# Altium footprint library Connectors.PcbLib: 147 footprints (part 6 of 10)
Each footprint in its own frame and in the unit in brackets; x right, y up, seen from the top. Pads: shape width x height; smd on the part's side, far side on the other; paste and mask are expansions set on the pad; w line width, h text height; cw(c..) or ccw(c..) is an arc to the next point about the centre after c.
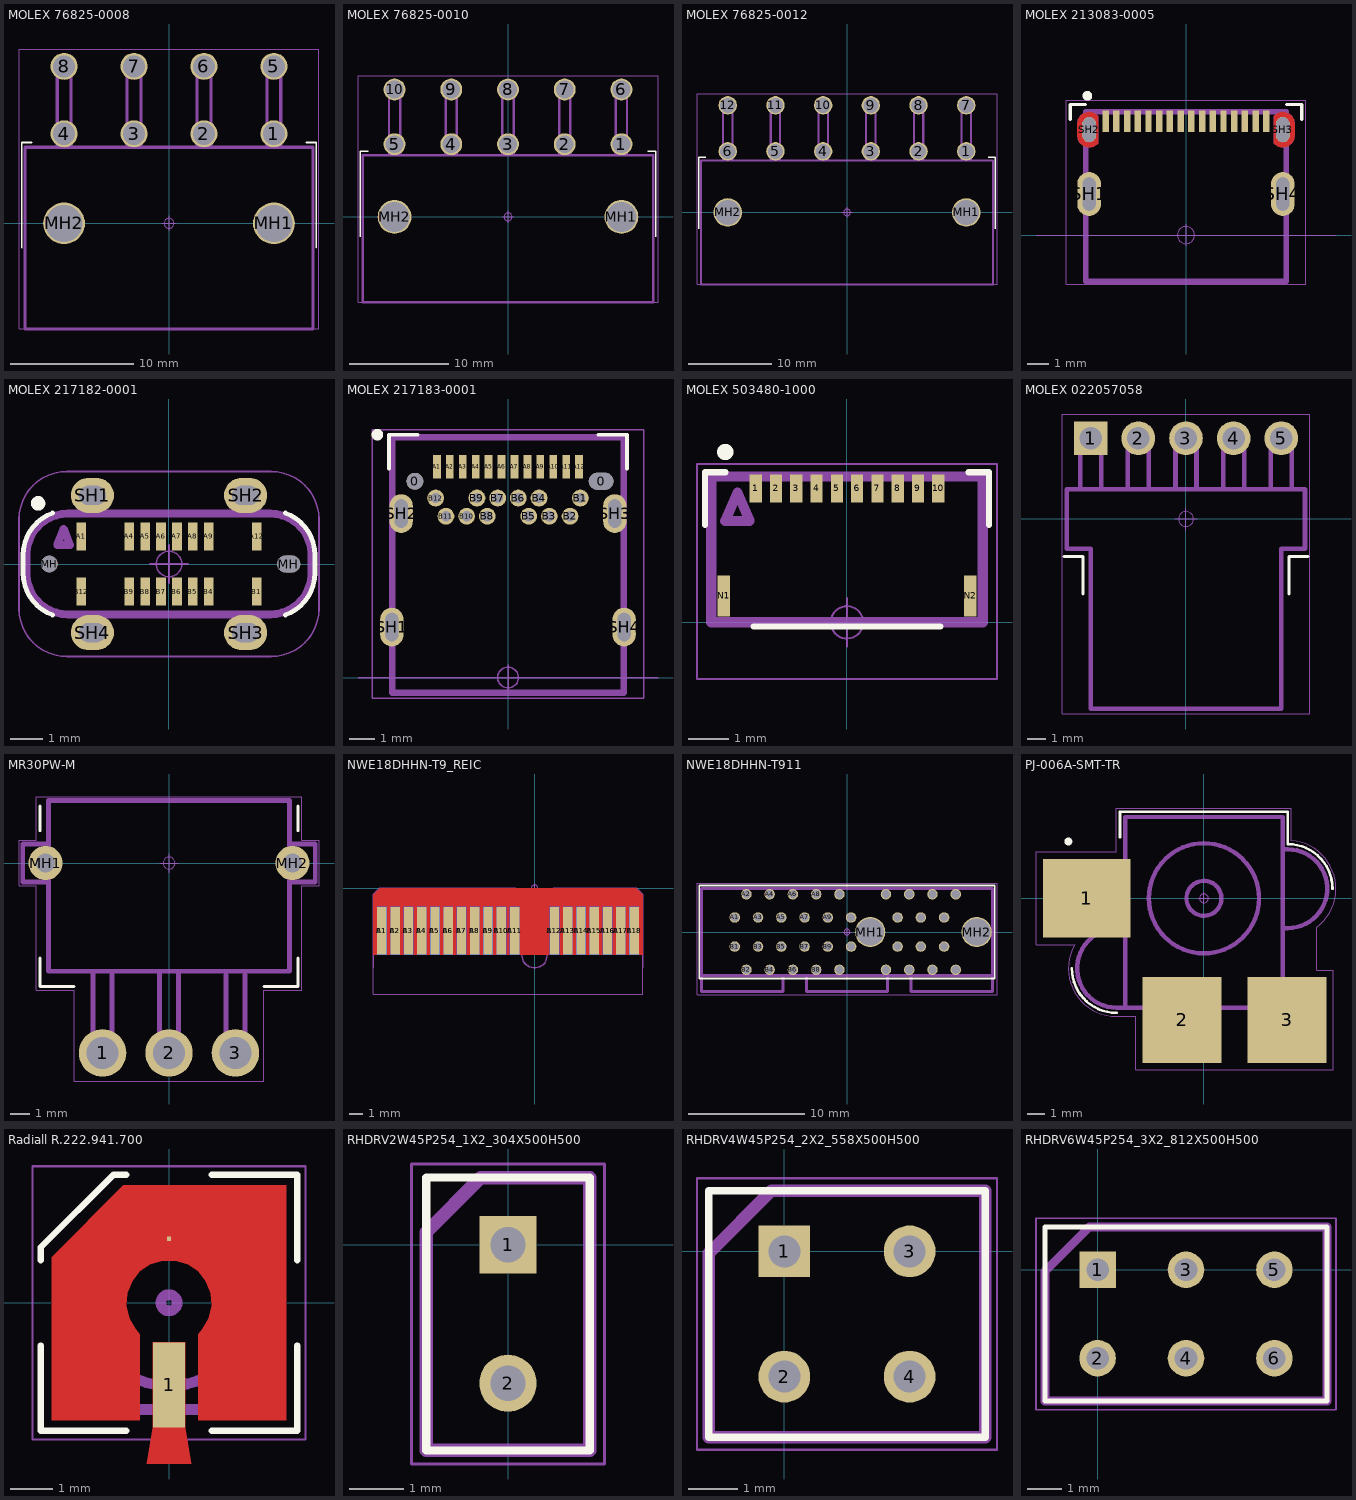
[diagram p5: the footprints below, top view; thin cyan lines are the x and y axes]

## MOLEX 76825-0008 [mm] "Mega-Fit Right-Angle Header, 8 Circuits, Tin (Sn) Plating, UL 94 V-0, Glow-Wire Capable, Tray"
height 14.53
pads (10):
  round 2.2 hole 1.8: 1(8.55,7.3) 2(2.85,7.3) 3(-2.85,7.3) 4(-8.55,7.3) 5(8.55,12.8) 6(2.85,12.8) 7(-2.85,12.8) 8(-8.55,12.8)
  round 3.4 hole 3 unplated: MH1(8.55,0) MH2(-8.55,0)
Top Overlay:
  lines w0.15: -12,-1.976 -11.999,-1.975 -11.999,6.6 -11.2,6.6 ; 11.2,6.6 11.999,6.6 11.999,-1.975
Top Assembly:
  lines w0.25: -9.11,6.2 -9.11,13.36 ; -9.11,6.74 -7.99,6.74 ; -9.11,7.86 -7.99,7.86 ; -9.11,12.24 -7.99,12.24 ; -7.99,6.2 -7.99,13.36 ; -3.41,6.2 -3.41,13.36 ; -3.41,6.74 -2.29,6.74 ; -3.41,7.86 -2.29,7.86 ; -3.41,12.24 -2.29,12.24 ; -2.29,6.2 -2.29,13.36 ; 2.29,6.2 2.29,13.36 ; 2.29,6.74 3.41,6.74 ; 2.29,7.86 3.41,7.86 ; 2.29,12.24 3.41,12.24 ; 3.41,6.2 3.41,13.36 ; 7.99,6.2 7.99,13.36 ; 7.99,6.74 9.11,6.74 ; 7.99,7.86 9.11,7.86 ; 7.99,12.24 9.11,12.24 ; 9.11,6.2 9.11,13.36 ; -9.11,13.36 -7.99,13.36 ; -9.11,13.36 -9.11,13.36 ; -7.99,13.36 -7.99,13.36 ; -3.41,13.36 -2.29,13.36 ; -3.41,13.36 -3.41,13.36 ; -2.29,13.36 -2.29,13.36 ; 2.29,13.36 3.41,13.36 ; 2.29,13.36 2.29,13.36 ; 3.41,13.36 3.41,13.36 ; 7.99,13.36 9.11,13.36 ; 7.99,13.36 7.99,13.36 ; 9.11,13.36 9.11,13.36 ; -11.725,-8.6 11.725,-8.6 11.725,6.2 -11.725,6.2 -11.725,-8.6
  text ".Designator" at -3.378,-0.339 h1.5
Top Courtyard:
  circle w0.05: c0,0 r0.4
  lines w0.05: -0.6,0 0.6,0 ; 0,-0.6 0,0.6 ; -12.225,-8.6 12.225,-8.6 12.225,14.2 -12.225,14.2 -12.225,-8.6
3D body "768250008_colors.STEP": height 14.55, standoff -3.59, extent -11.725,-8.6 11.735,13.362

## MOLEX 76825-0010 [mm] "Mega-Fit Right-Angle Header, 10 Circuits, Tin (Sn) Plating, UL 94 V-0, Glow-Wire Capable, Tray"
height 14.53
pads (12):
  round 2.2 hole 1.8: 1(11.4,7.3) 2(5.7,7.3) 3(0,7.3) 4(-5.7,7.3) 5(-11.4,7.3) 6(11.4,12.8) 7(5.7,12.8) 8(0,12.8) 9(-5.7,12.8) 10(-11.4,12.8)
  round 3.4 hole 3 unplated: MH1(11.4,0) MH2(-11.4,0)
Top Overlay:
  lines w0.15: -14.85,-1.976 -14.849,-1.975 -14.849,6.6 -14.05,6.6 ; 14.05,6.6 14.849,6.6 14.849,-1.975
Top Assembly:
  lines w0.25: -11.96,6.2 -11.96,13.36 ; -11.96,6.74 -10.84,6.74 ; -11.96,7.86 -10.84,7.86 ; -11.96,12.24 -10.84,12.24 ; -10.84,6.2 -10.84,13.36 ; -6.26,6.2 -6.26,13.36 ; -6.26,6.74 -5.14,6.74 ; -6.26,7.86 -5.14,7.86 ; -6.26,12.24 -5.14,12.24 ; -5.14,6.2 -5.14,13.36 ; -0.56,6.2 -0.56,13.36 ; -0.56,6.74 0.56,6.74 ; -0.56,7.86 0.56,7.86 ; -0.56,12.24 0.56,12.24 ; 0.56,6.2 0.56,13.36 ; 5.14,6.2 5.14,13.36 ; 5.14,6.74 6.26,6.74 ; 5.14,7.86 6.26,7.86 ; 5.14,12.24 6.26,12.24 ; 6.26,6.2 6.26,13.36 ; 10.84,6.2 10.84,13.36 ; 10.84,6.74 11.96,6.74 ; 10.84,7.86 11.96,7.86 ; 10.84,12.24 11.96,12.24 ; 11.96,6.2 11.96,13.36 ; -11.96,13.36 -11.96,13.36 ; -11.96,13.36 -10.84,13.36 ; -10.84,13.36 -10.84,13.36 ; -6.26,13.36 -6.26,13.36 ; -6.26,13.36 -5.14,13.36 ; -5.14,13.36 -5.14,13.36 ; -0.56,13.36 -0.56,13.36 ; -0.56,13.36 0.56,13.36 ; 0.56,13.36 0.56,13.36 ; 5.14,13.36 5.14,13.36 ; 5.14,13.36 6.26,13.36 ; 6.26,13.36 6.26,13.36 ; 10.84,13.36 10.84,13.36 ; 10.84,13.36 11.96,13.36 ; 11.96,13.36 11.96,13.36 ; -14.575,-8.6 -14.575,6.2 14.575,6.2 14.575,-8.6 -14.575,-8.6
  text ".Designator" at -3.378,-0.339 h1.5
Top Courtyard:
  circle w0.05: c0,0 r0.4
  lines w0.05: -0.6,0 0.6,0 ; 0,-0.6 0,0.6 ; -15.075,-8.6 -15.075,14.2 15.075,14.2 15.075,-8.6 -15.075,-8.6
3D body "768250010.STEP": height 14.55, standoff -3.59, extent -14.575,-8.6 14.585,13.362

## MOLEX 76825-0012 [mm] "Mega-Fit Right-Angle Header, 12 Circuits, Tin (Sn) Plating, UL 94 V-0, Glow-Wire Capable, Tray"
height 14.53
pads (14):
  round 2.2 hole 1.8: 1(14.25,7.3) 2(8.55,7.3) 3(2.85,7.3) 4(-2.85,7.3) 5(-8.55,7.3) 6(-14.25,7.3) 7(14.25,12.8) 8(8.55,12.8) 9(2.85,12.8) 10(-2.85,12.8) 11(-8.55,12.8) 12(-14.25,12.8)
  round 3.4 hole 3 unplated: MH1(14.25,0) MH2(-14.25,0)
Top Overlay:
  lines w0.15: -17.7,-1.976 -17.699,-1.975 -17.699,6.6 -16.9,6.6 ; 16.9,6.6 17.699,6.6 17.699,-1.975
Top Assembly:
  lines w0.25: -14.81,6.2 -14.81,13.36 ; -14.81,6.74 -13.69,6.74 ; -14.81,7.86 -13.69,7.86 ; -14.81,12.24 -13.69,12.24 ; -13.69,6.2 -13.69,13.36 ; -9.11,6.2 -9.11,13.36 ; -9.11,6.74 -7.99,6.74 ; -9.11,7.86 -7.99,7.86 ; -9.11,12.24 -7.99,12.24 ; -7.99,6.2 -7.99,13.36 ; -3.41,6.2 -3.41,13.36 ; -3.41,6.74 -2.29,6.74 ; -3.41,7.86 -2.29,7.86 ; -3.41,12.24 -2.29,12.24 ; -2.29,6.2 -2.29,13.36 ; 2.29,6.2 2.29,13.36 ; 2.29,6.74 3.41,6.74 ; 2.29,7.86 3.41,7.86 ; 2.29,12.24 3.41,12.24 ; 3.41,6.2 3.41,13.36 ; 7.99,6.2 7.99,13.36 ; 7.99,6.74 9.11,6.74 ; 7.99,7.86 9.11,7.86 ; 7.99,12.24 9.11,12.24 ; 9.11,6.2 9.11,13.36 ; 13.69,6.2 13.69,13.36 ; 13.69,6.74 14.81,6.74 ; 13.69,7.86 14.81,7.86 ; 13.69,12.24 14.81,12.24 ; 14.81,6.2 14.81,13.36 ; -14.81,13.36 -14.81,13.36 ; -14.81,13.36 -13.69,13.36 ; -13.69,13.36 -13.69,13.36 ; -9.11,13.36 -9.11,13.36 ; -9.11,13.36 -7.99,13.36 ; -7.99,13.36 -7.99,13.36 ; -3.41,13.36 -3.41,13.36 ; -3.41,13.36 -2.29,13.36 ; -2.29,13.36 -2.29,13.36 ; 2.29,13.36 2.29,13.36 ; 2.29,13.36 3.41,13.36 ; 3.41,13.36 3.41,13.36 ; 7.99,13.36 7.99,13.36 ; 7.99,13.36 9.11,13.36 ; 9.11,13.36 9.11,13.36 ; 13.69,13.36 13.69,13.36 ; 13.69,13.36 14.81,13.36 ; 14.81,13.36 14.81,13.36 ; -17.425,-8.6 -17.425,6.2 17.425,6.2 17.425,-8.6 -17.425,-8.6
  text ".Designator" at -3.378,-0.339 h1.5
Top Courtyard:
  circle w0.05: c0,0 r0.4
  lines w0.05: -0.6,0 0.6,0 ; 0,-0.6 0,0.6 ; -17.925,-8.6 -17.925,14.2 17.925,14.2 17.925,-8.6 -17.925,-8.6
3D body "768250012.STEP": height 14.55, standoff -3.59, extent -17.425,-8.6 17.435,13.362

## MOLEX 213083-0005 [mm] "Universal Serial Bus (USB) Shielded I/O Receptacle, Type C, Right-Angle, Top Mount, Single Row, Surface Mount, Gold (Au) Plating, Waterproof"
height 4.7
pads (20):
  rect 0.3x1 smd: A1(-3.75,5.32) A4(-2.75,5.32) A5(-1.75,5.32) A6(-0.75,5.32) A7(0.75,5.32) A8(1.75,5.32) A9(2.75,5.32) A12(3.75,5.32) B1(3.25,5.32) B4(2.25,5.32) B5(1.25,5.32) B6(0.25,5.32) B7(-0.25,5.32) B8(-1.25,5.32) B9(-2.25,5.32) B12(-3.25,5.32)
  oval 1.1x2.05 hole 0.6 slot 1.55 at 90 deg: SH1(-4.52,1.92) SH4(4.52,1.92)
  oval 0.625x1.175 hole 0.6 slot 1.15 at 90 deg: SH2(-4.52,4.92) SH3(4.52,4.92)
Top Layer:
  region: -5.07,4.645 -5.07,4.609 -5.061,4.537 -5.042,4.468 -5.015,4.401 -4.979,4.338 -4.935,4.281 -4.884,4.23 -4.826,4.186 -4.764,4.15 -4.697,4.123 -4.628,4.104 -4.556,4.095 -4.52,4.095 -4.49,4.095 -4.431,4.101 -4.372,4.114 -4.316,4.133 -4.261,4.158 -4.21,4.189 -4.163,4.226 -4.119,4.267 -4.1,4.29 -4.1,4.925 -4.1,5.55 -4.119,5.572 -4.163,5.614 -4.21,5.65 -4.261,5.681 -4.316,5.706 -4.372,5.725 -4.431,5.738 -4.49,5.745 -4.52,5.745 -4.556,5.745 -4.628,5.735 -4.697,5.717 -4.764,5.689 -4.826,5.653 -4.884,5.609 -4.935,5.558 -4.979,5.501 -5.015,5.438 -5.042,5.372 -5.061,5.302 -5.07,5.231 -5.07,5.195
  region: 5.07,5.195 5.07,5.231 5.06,5.302 5.042,5.372 5.014,5.438 4.978,5.501 4.934,5.558 4.883,5.609 4.826,5.653 4.764,5.689 4.697,5.717 4.627,5.735 4.556,5.745 4.52,5.745 4.49,5.745 4.43,5.738 4.372,5.725 4.315,5.706 4.261,5.681 4.21,5.65 4.162,5.614 4.119,5.572 4.1,5.55 4.1,4.914 4.1,4.29 4.119,4.267 4.162,4.226 4.21,4.189 4.261,4.158 4.315,4.133 4.372,4.114 4.43,4.101 4.49,4.095 4.52,4.095 4.556,4.095 4.627,4.104 4.697,4.123 4.764,4.15 4.826,4.186 4.883,4.23 4.934,4.281 4.978,4.338 5.014,4.401 5.042,4.468 5.06,4.537 5.07,4.609 5.07,4.645
Bottom Layer:
  region: -5.07,4.645 -5.07,4.609 -5.061,4.537 -5.042,4.468 -5.015,4.401 -4.979,4.338 -4.935,4.281 -4.884,4.23 -4.826,4.186 -4.764,4.15 -4.697,4.123 -4.628,4.104 -4.556,4.095 -4.52,4.095 -4.49,4.095 -4.431,4.101 -4.372,4.114 -4.316,4.133 -4.261,4.158 -4.21,4.189 -4.163,4.226 -4.119,4.267 -4.1,4.29 -4.1,4.925 -4.1,5.55 -4.119,5.572 -4.163,5.614 -4.21,5.65 -4.261,5.681 -4.316,5.706 -4.372,5.725 -4.431,5.738 -4.49,5.745 -4.52,5.745 -4.556,5.745 -4.628,5.735 -4.697,5.717 -4.764,5.689 -4.826,5.653 -4.884,5.609 -4.935,5.558 -4.979,5.501 -5.015,5.438 -5.042,5.372 -5.061,5.302 -5.07,5.231 -5.07,5.195
  region: 5.07,5.195 5.07,5.231 5.06,5.302 5.042,5.372 5.014,5.438 4.978,5.501 4.934,5.558 4.883,5.609 4.826,5.653 4.764,5.689 4.697,5.717 4.627,5.735 4.556,5.745 4.52,5.745 4.49,5.745 4.43,5.738 4.372,5.725 4.315,5.706 4.261,5.681 4.21,5.65 4.162,5.614 4.119,5.572 4.1,5.55 4.1,4.914 4.1,4.29 4.119,4.267 4.162,4.226 4.21,4.189 4.261,4.158 4.315,4.133 4.372,4.114 4.43,4.101 4.49,4.095 4.52,4.095 4.556,4.095 4.627,4.104 4.697,4.123 4.764,4.15 4.826,4.186 4.883,4.23 4.934,4.281 4.978,4.338 5.014,4.401 5.042,4.468 5.06,4.537 5.07,4.609 5.07,4.645
Top Overlay:
  circle w0.25: c-4.6,6.5 r0.1
  lines w0.15: -5.4,5.4 -5.4,6.1 -4.7,6.1 ; 4.7,6.1 5.4,6.1 5.4,5.4
Top Assembly:
  lines w0.25: -4.67,-2.15 -4.67,5.75 4.67,5.75 4.67,-2.15 -4.67,-2.15
  text ".Designator" at -3.628,0.441 h1.5
Top Courtyard:
  circle w0.05: c0,0 r0.4
  lines w0.05: -7,0 7,0 ; 0,-0.5 0,0.5 ; -5.598,-2.298 5.598,-2.298 5.598,6.298 -5.598,6.298 -5.598,-2.298
Multi-Layer:
  pour cut-out: -3.7,0 -3.7,4.5 3.7,4.5 3.7,0
3D body "2130830005-colors.STEP": height 3.92, standoff -1.04, extent -5.17,-2.18 5.17,5.72

## MOLEX 217182-0001 [mm] "Universal Serial Bus (USB) Shielded I/O Receptacle, Type C, Vertical, Surface Mount, Height 6.40mm, 16 Circuits, Gold (Au) Plating"
height 6.4
pads (22):
  rect 0.3x0.87 smd: A1(-2.75,0.865) A4(-1.25,0.865) A5(-0.75,0.865) A6(-0.25,0.865) A7(0.25,0.865) A8(0.75,0.865) A9(1.25,0.865) A12(2.75,0.865) B1(2.75,-0.865) B4(1.25,-0.865) B5(0.75,-0.865) B6(0.25,-0.865) B7(-0.25,-0.865) B8(-0.75,-0.865) B9(-1.25,-0.865) B12(-2.75,-0.865)
  round 0.52 hole 0.52 unplated paste-2539.97 mask+0: MH(-3.75,0)
  oval 0.72x0.52 hole 0.52 slot 0.72 at 0 deg unplated paste-2539.97 mask+0: MH(3.75,0)
  oval 1.35x1.1 hole 0.6 slot 0.85 at 0 deg: SH1(-2.4,2.15) SH2(2.4,2.15) SH3(2.4,-2.15) SH4(-2.4,-2.15)
Top Overlay:
  circle w0.25: c-4.1,1.9 r0.1
  lines w0.15: -3.649,-1.596 cw(c-3.17,-0.28) -4.57,-0.28 -4.57,0.28 cw(c-3.17,0.28) -3.649,1.596 ; 3.649,-1.596 ccw(c3.17,-0.28) 4.57,-0.28 4.57,0.28 ccw(c3.17,0.28) 3.649,1.596
Top Assembly:
  lines w0.25: -4.468,-0.278 ccw(c-3.168,-0.278) -3.168,-1.578 3.168,-1.578 ccw(c3.168,-0.278) 4.468,-0.278 4.468,0.278 ccw(c3.168,0.278) 3.168,1.578 -3.168,1.578 ccw(c-3.168,0.278) -4.468,0.278 -4.468,-0.278 ; -3.5,0.6 -3.1,0.6 -3.3,1.1 -3.5,0.6
  text ".Designator" at -5.637,-0.566 h2.5
Top Courtyard:
  circle w0.05: c0,0 r0.4
  lines w0.05: -0.6,0 0.6,0 ; 0,-0.6 0,0.6 ; -4.698,-1.398 ccw(c-3.198,-1.398) -3.198,-2.898 3.198,-2.898 ccw(c3.198,-1.398) 4.698,-1.398 4.698,1.398 ccw(c3.198,1.398) 3.198,2.898 -3.198,2.898 ccw(c-3.198,1.398) -4.698,1.398 -4.698,-1.398
3D body "2171820001_Colors.STEP": height 6.41, standoff -0.94, extent -4.47,-2.3 4.47,2.3

## MOLEX 217183-0001 [mm] "Universal Serial Bus (USB) Shielded I/O Receptacle, Type C, Right-Angle, Hybrid, Top Mount, 24 Circuits, Gold (Au) Plating"
height 3.2
pads (30):
  round 0.65 hole 0.65 unplated paste-2539.97 mask+0: 0(-3.6,7.59)
  oval 0.95x0.65 hole 0.65 slot 0.95 at 0 deg unplated paste-2539.97 mask+0: 0(3.6,7.59)
  rect 0.3x0.9 smd: A1(-2.75,8.15) A2(-2.25,8.15) A3(-1.75,8.15) A4(-1.25,8.15) A5(-0.75,8.15) A6(-0.25,8.15) A7(0.25,8.15) A8(0.75,8.15) A9(1.25,8.15) A10(1.75,8.15) A11(2.25,8.15) A12(2.75,8.15)
  round 0.65 hole 0.4: B1(2.8,6.94) B2(2.4,6.24) B3(1.6,6.24) B4(1.2,6.94) B5(0.8,6.24) B6(0.4,6.94) B7(-0.4,6.94) B8(-0.8,6.24) B9(-1.2,6.94) B10(-1.6,6.24) B11(-2.4,6.24) B12(-2.8,6.94)
  oval 0.9x1.5 hole 0.5 slot 1.1 at 90 deg: SH1(-4.49,1.95) SH2(-4.13,6.34) SH3(4.13,6.34) SH4(4.49,1.95)
Top Overlay:
  circle w0.25: c-5.05,9.39 r0.1
  lines w0.15: -4.6,8.09 -4.6,9.39 -3.5,9.39 ; 3.5,9.39 4.6,9.39 4.6,8.09
Top Assembly:
  lines w0.25: -4.475,-0.58 4.475,-0.58 4.475,9.29 -4.475,9.29 -4.475,-0.58
  text ".Designator" at -3.378,4.016 h1.5
Top Courtyard:
  circle w0.05: c0,0 r0.4
  lines w0.05: -5.8,0 5.8,0 ; 0,-0.5 0,0.5 ; -5.248,-0.808 5.248,-0.808 5.248,9.588 -5.248,9.588 -5.248,-0.808
3D body "2171830001-colors.STEP": height 3.33, standoff -1.13, extent -4.925,-0.58 4.925,9.29

## MOLEX 503480-1000 [mm] "Easy-On FFC/FPC Connector, 0.50mm Pitch, FBH1 Series, Right-Angle, Dual Contact, 1.00mm Height, 10 Circuits, Gold over Nickel Plating"
height 1.9
pads (12):
  rect 0.3x0.7 smd: 1(-2.25,3.3) 2(-1.75,3.3) 3(-1.25,3.3) 4(-0.75,3.3) 5(-0.25,3.3) 6(0.25,3.3) 7(0.75,3.3) 8(1.25,3.3) 9(1.75,3.3) 10(2.25,3.3)
  rect 0.3x1 smd: N1(-3.04,0.65) N2(3.04,0.65)
Top Overlay:
  circle w0.25: c-3,4.2 r0.075
  lines w0.15: -3.5,2.4 -3.5,3.7 -3,3.7 ; -2.3,-0.1 2.3,-0.1 ; 3,3.7 3.5,3.7 3.5,2.4
Top Assembly:
  lines w0.25: -3.348,0.002 3.348,0.002 3.348,3.598 -3.348,3.598 -3.348,0.002 ; -3,2.5 -2.4,2.5 -2.7,3.2 -3,2.5
  text ".Designator" at -3.378,1.061 h1.5
Top Courtyard:
  circle w0.05: c0,0 r0.4
  lines w0.05: -0.6,0 0.6,0 ; 0,-0.6 0,0.6 ; -3.698,-1.398 3.698,-1.398 3.698,3.898 -3.698,3.898 -3.698,-1.398
3D body "Molex_503480-1000_Colors.STEP": height 1.85, standoff -0.02, extent -3.35,0 3.35,3.6

## MOLEX 022057058 [mm] "KK 254 Wire-to-Board Header, Right-Angle, with Friction Lock, 5 Circuits"
height 5.8
pads (5):
  rect 1.8x1.8 hole 1.2 paste-2539.97 mask+0.2: 1(-5.08,4.307)
  round 1.8 hole 1.2 paste-2539.97 mask+0.2: 2(-2.54,4.307) 3(0,4.307) 4(2.54,4.307) 5(5.08,4.307)
Top Overlay:
  lines w0.15: -6.5,-2 -5.5,-2 -5.5,-4 ; 5.5,-4 5.5,-2 6.5,-2
Top Assembly:
  lines w0.25: -5.64,1.6 -5.64,4.867 ; -5.64,3.747 -4.52,3.747 ; -4.52,1.6 -4.52,4.867 ; -3.1,1.6 -3.1,4.867 ; -3.1,3.747 -1.98,3.747 ; -1.98,1.6 -1.98,4.867 ; -0.56,1.6 -0.56,4.867 ; -0.56,3.747 0.56,3.747 ; 0.56,1.6 0.56,4.867 ; 1.98,1.6 1.98,4.867 ; 1.98,3.747 3.1,3.747 ; 3.1,1.6 3.1,4.867 ; 4.52,1.6 4.52,4.867 ; 4.52,3.747 5.64,3.747 ; 5.64,1.6 5.64,4.867 ; -5.64,4.867 -5.64,4.867 ; -5.64,4.867 -4.52,4.867 ; -4.52,4.867 -4.52,4.867 ; -3.1,4.867 -3.1,4.867 ; -3.1,4.867 -1.98,4.867 ; -1.98,4.867 -1.98,4.867 ; -0.56,4.867 -0.56,4.867 ; -0.56,4.867 0.56,4.867 ; 0.56,4.867 0.56,4.867 ; 1.98,4.867 1.98,4.867 ; 1.98,4.867 3.1,4.867 ; 3.1,4.867 3.1,4.867 ; 4.52,4.867 4.52,4.867 ; 4.52,4.867 5.64,4.867 ; 5.08,-10.113 -5.08,-10.113 -5.08,-1.588 -6.35,-1.588 -6.35,1.587 6.35,1.587 6.35,-1.588 5.08,-1.588 ; 5.08,-10.113 5.08,-1.588 ; 5.08,-10.113 5.08,-1.588 ; 5.64,4.867 5.64,4.867
  text ".Designator" at -3.378,-0.339 h1.5
Top Courtyard:
  circle w0.05: c0,0 r0.4
  lines w0.05: -0.6,0 0.6,0 ; 0,-0.6 0,0.6 ; -6.598,-10.398 6.598,-10.398 6.598,5.598 -6.598,5.598 -6.598,-10.398
3D body "MOLEX 022057058.STEP": height 5.87, standoff -3.77, extent -6.35,-10.112 6.35,4.625

## MR30PW-M [mm] "AMASS MR30PW Right Angle 3-pos Male"
height 5.3
pads (5):
  round 2.5 hole 1.7: 1(-3.5,-10) 2(0,-10) 3(3.5,-10)
  round 1.8 hole 1: MH1(-6.5,0) MH2(6.5,0)
Top Overlay:
  lines w0.15: -6.8,-5 -6.8,-6.5 -5,-6.5 ; -6.8,1.7 -6.8,3 ; 5,-6.5 6.8,-6.5 6.8,-5 ; 6.8,1.7 6.8,3
Top Assembly:
  lines w0.25: -6.4,-1 -7.7,-1 -7.7,1 -6.4,1 ; -4,-5.8 -4,-10.5 -3,-10.5 -3,-5.8 ; -0.5,-5.7 -0.5,-10.4 0.5,-10.4 0.5,-5.7 ; 3,-5.9 3,-10.6 4,-10.6 4,-5.9 ; 6.4,-1 7.7,-1 7.7,1 6.4,1 ; -6.348,-5.698 6.348,-5.698 6.348,3.298 -6.348,3.298 -6.348,-5.698
  text ".Designator" at -1.7,-1.63 h2.5
Top Courtyard:
  circle w0.05: c0,0 r0.316
  lines w0.05: -0.5,0 0.5,0 ; 0,-0.5 0,0.5 ; -7.9,-1.2 -7.9,1.2 -7,1.2 -7,3.5 7,3.5 7,1.2 7.9,1.2 7.9,-1.2 7,-1.2 7,-6.7 5,-6.7 5,-11.5 -5,-11.5 -5,-6.7 -7,-6.7 -7,-1.2 -7.9,-1.2
3D body "MR30PW-M.STEP": height 5.3, standoff -2, extent -7.7,-10.75 7.7,3.3

## NWE18DHHN-T9_REIC [mm] "PCI Edge Connector Recep for NWE18DHHN-T921"
pads (36):
  rect 0.7x3.6 smd paste-0.35: A1(-11.5,-3.2) A2(-10.5,-3.2) A3(-9.5,-3.2) A4(-8.5,-3.2) A5(-7.5,-3.2) A6(-6.5,-3.2) A7(-5.5,-3.2) A8(-4.5,-3.2) A9(-3.5,-3.2) A10(-2.5,-3.2) A11(-1.5,-3.2) A12(1.5,-3.2) A13(2.5,-3.2) A14(3.5,-3.2) A15(4.5,-3.2) A16(5.5,-3.2) A17(6.5,-3.2) A18(7.5,-3.2)
  rect 0.7x3.6 smd far side paste-0.35: B1(-11.5,-3.2) B2(-10.5,-3.2) B3(-9.5,-3.2) B4(-8.5,-3.2) B5(-7.5,-3.2) B6(-6.5,-3.2) B7(-5.5,-3.2) B8(-4.5,-3.2) B9(-3.5,-3.2) B10(-2.5,-3.2) B11(-1.5,-3.2) B12(1.5,-3.2) B13(2.5,-3.2) B14(3.5,-3.2) B15(4.5,-3.2) B16(5.5,-3.2) B17(6.5,-3.2) B18(7.5,-3.2)
Top Layer:
  pour cut-out: -12.15,-5 -12.15,-0.5 -11.65,0 7.65,0 8.15,-0.5 8.15,-5
Bottom Layer:
  pour cut-out: -12.15,-5 -12.15,-0.5 -11.65,0 7.65,0 8.15,-0.5 8.15,-5
Top Solder:
  region: -12.15,-6 8.15,-6 8.15,-0.5 7.65,0 1.45,0 0.95,-0.5 0.95,-5.05 0.942,-5.174 0.878,-5.414 0.754,-5.628 0.578,-5.804 0.364,-5.928 0.124,-5.992 -0.124,-5.992 -0.364,-5.928 -0.578,-5.804 -0.754,-5.628 -0.878,-5.414 -0.942,-5.174 -0.95,-5.05 -0.95,-0.5 -1.45,0 -11.65,0 -12.15,-0.5
Bottom Solder:
  region: -12.15,-6 8.15,-6 8.15,-0.5 7.65,0 1.45,0 0.95,-0.5 0.95,-5.05 0.942,-5.174 0.878,-5.414 0.754,-5.628 0.578,-5.804 0.364,-5.928 0.124,-5.992 -0.124,-5.992 -0.364,-5.928 -0.578,-5.804 -0.754,-5.628 -0.878,-5.414 -0.942,-5.174 -0.95,-5.05 -0.95,-0.5 -1.45,0 -11.65,0 -12.15,-0.5
Board:
  lines w0.1: -12.15,-6 -12.15,-0.5 -11.65,0 ; 8.15,-6 8.15,-0.5 7.65,0 1.45,0 0.95,-0.5 0.95,-5.05 cw(c0,-5.05) -0.95,-5.05 -0.95,-0.5 -1.45,0 -11.65,0 ; -11.65,0 -11.65,0
Top Courtyard:
  circle w0.05: c0,0 r0.25
  lines w0.05: -0.35,0 0.35,0 ; 0,-0.35 0,0.35 ; -11.65,0 -12.15,-0.5 -12.15,-8 8.15,-8 8.15,-0.5 7.65,0 1.45,0 0.95,-0.5 0.95,-5.05 cw(c0,-5.05) -0.95,-5.05 -0.95,-0.5 -1.45,0 -11.65,0 ; -11.65,0 -11.65,0
Bottom Courtyard:
  circle w0.05: c0,0 r0.25
  lines w0.05: -0.35,0 0.35,0 ; 0,-0.35 0,0.35 ; -11.65,0 -11.65,0 ; -11.65,0 -1.45,0 -0.95,-0.5 -0.95,-5.05 ccw(c0,-5.05) 0.95,-5.05 0.95,-0.5 1.45,0 7.65,0 8.15,-0.5 8.15,-8 -12.15,-8 -12.15,-0.5 -11.65,0

## NWE18DHHN-T911 [mm] "PCI-E Connemctor"
height 11.25
pads (38):
  round 0.9 hole 0.7 paste-2539.97: A1(-9.65,1.25) A2(-8.65,3.25) A3(-7.65,1.25) A4(-6.65,3.25) A5(-5.65,1.25) A6(-4.65,3.25) A7(-3.65,1.25) A8(-2.65,3.25) A9(-1.65,1.25) A10(-0.65,3.25) A11(0.35,1.25) A12(3.35,3.25) A13(4.35,1.25) A14(5.35,3.25) A15(6.35,1.25) A16(7.35,3.25) A17(8.35,1.25) A18(9.35,3.25) B1(-9.65,-1.25) B2(-8.65,-3.25) B3(-7.65,-1.25) B4(-6.65,-3.25) B5(-5.65,-1.25) B6(-4.65,-3.25) B7(-3.65,-1.25) B8(-2.65,-3.25) B9(-1.65,-1.25) B10(-0.65,-3.25) B11(0.35,-1.25) B12(3.35,-3.25) B13(4.35,-1.25) B14(5.35,-3.25) B15(6.35,-1.25) B16(7.35,-3.25) B17(8.35,-1.25) B18(9.35,-3.25)
  round 2.6 hole 2.35 unplated paste-2539.97: MH1(2,0) MH2(11.15,0)
Top Overlay:
  lines w0.15: -12.7,-4 12.7,-4 12.7,4 -12.7,4 -12.7,-4
Top Assembly:
  lines w0.25: -5.5,-3.75 -5.5,-5.1 -12.5,-5.1 -12.5,-3.75 ; -3.5,-3.75 -3.5,-5.1 3.5,-5.1 3.5,-3.75 ; 5.5,-3.75 5.5,-5.1 12.5,-5.1 12.5,-3.75 ; -12.5,-3.75 -12.5,3.75 12.5,3.75 12.5,-3.75 ; -12.5,-3.75 12.5,-3.75
  text ".Designator" at -10.4,-0.45 h1.5
Top Courtyard:
  circle w0.05: c0,0 r0.25
  lines w0.05: -0.35,0 0.35,0 ; 0,-0.35 0,0.35 ; -12.9,-5.4 -12.9,4.2 12.9,4.2 12.9,-5.4 -12.9,-5.4
3D body "NWE18DHHN-T911.STEP": height 11.25, standoff -4.4, extent -12.5,-5.1 12.5,3.75

## PJ-006A-SMT-TR [mm] "2.0 x 6.3 mm, 2.5 A, Vertical, Surface Mount (SMT), Dc Power Jack Connector"
height 14.1
pads (3):
  rect 5x4.5 smd: 1(-6.7,0)
  rect 4.5x4.9 smd: 2(-1.25,-6.95) 3(4.75,-6.95)
Top Overlay:
  circle w0.25: c-7.75,3.25 r0.1
  lines w0.15: -7.55,-4 ccw(c-5,-4) -5,-6.55 ; -4.8,3.5 -4.8,4.95 -4.5,4.95 4.8,4.95 4.8,3.1 cw(c4.8,0.55) 7.35,0.55
  text ".Net1" at -8.069,-8.124 h1.5
Top Assembly:
  circle w0.25: c0,0 r3.15
  circle w0.25: c0,0 r1
  lines w0.25: -4.5,-1.75 -5,-1.75 ccw(c-5,-4) -5,-6.25 -4.5,-6.25 ; 4.5,-1.7 4.8,-1.7 ccw(c4.8,0.55) 4.8,2.8 4.5,2.8 ; -4.5,-6.25 -4.5,4.65 4.5,4.65 4.5,-6.25 -4.5,-6.25
  text ".Designator" at -3.478,-4.839 h1.5
Top Courtyard:
  circle w0.05: c0,0 r0.25
  lines w0.05: -7.395,-2.65 -9.6,-2.65 -9.6,2.65 -5,2.65 -5,5.15 5,5.15 5,3.293 cw(c4.8,0.55) 6.45,-1.65 6.45,-4.1 7.4,-4.1 7.4,-9.8 -3.9,-9.8 -3.9,-6.75 -5,-6.75 cw(c-5,-4) -7.396,-2.65 ; -0.35,0 0.35,0 ; 0,-0.35 0,0.35
3D body "CUI_DEVICES_PJ-006A-SMT-TR.step": height 14.1, standoff -0.1, extent -8.339,-8.891 7.05,4.65

## Radiall R.222.941.700 [mm] "RF Connector / Coaxial Connector SMP/STRG MALE RECP SMT SMOOTH BORE"
height 4.27
pads (2):
  rect 0.75x2 smd: 1(0,-1.925)
  rect 0.1x0.1 smd: 2(0,1.5)
Top Layer:
  region: -2.75,-2.75 -2.75,1.066 -1.066,2.75 2.75,2.75 2.75,-2.75 0.68,-2.75 0.68,-0.733 0.782,-0.624 0.931,-0.366 0.997,-0.075 0.975,0.222 0.866,0.5 0.68,0.733 0.434,0.901 0.149,0.989 -0.149,0.989 -0.434,0.901 -0.68,0.733 -0.866,0.5 -0.975,0.222 -0.997,-0.075 -0.931,-0.366 -0.782,-0.624 -0.68,-0.733 -0.68,-2.75
  region: -0.525,-3.775 0.525,-3.775 0.375,-2.925 0.375,-0.925 -0.375,-0.925 -0.375,-2.925
Top Overlay:
  lines w0.15: -3,-1 -3,-3 -1,-3 ; -3,1 -3,1.3 -1.3,3 -1,3 ; 1,-3 3,-3 3,-1 ; 1,3 3,3 3,1
Top Assembly:
  circle w0.25: c0,0 r1.945
  circle w0.25: c0,0 r0.19
  lines w0.25: -2.077,-2.5 2.076,-2.5 ccw(c0,0) 2.5,-2.077 2.5,2.076 ccw(c0,0) 2.076,2.5 -0.753,2.5 -2.5,0.752 -2.5,-2.077 ccw(c0,0) -2.077,-2.5
  text ".Designator" at -3.378,0.561 h1.5
Top Courtyard:
  lines w0.05: -3.198,-3.198 3.198,-3.198 3.198,3.198 -3.198,3.198 -3.198,-3.198
3D body "R222.941.700.STEP": height 4.27, standoff 0, extent -2.5,-2.87 2.5,2.5

## RHDRV2W45P254_1X2_304X500H500 [mm] "Header, Vertical Receptacle, 2.54 mm pitch; 0.45 mm lead width, 2 pins, 2 rows, 1 pin per row, 3.04 mm L X 5.00 mm W X 5.00 mm H body"
height 5
pads (2):
  rect 1.05x1.05 / inner round 1.05 / far side rect 1.05x1.05 hole 0.65 paste-2539.97: 1(0,0)
  round 1.05 hole 0.65 paste-2539.97: 2(0,-2.54)
Top Overlay:
  lines w0.15: -1.5,-3.77 1.5,-3.77 1.5,1.23 -1.5,1.23 -1.5,-3.77
Top Assembly:
  lines w0.25: -1.5,-3.77 1.5,-3.77 1.5,1.23 -0.5,1.23 -1.5,0.23 -1.5,-3.77
  text ".Designator" at -1.3,-1.6 h1.5
Top Courtyard:
  circle w0.05: c0,0 r0.25
  lines w0.05: -0.35,0 0.35,0 ; 0,-0.35 0,0.35 ; -1.77,-4.02 1.77,-4.02 1.77,1.48 -1.77,1.48 -1.77,-4.02
3D body "RHDRV2W45P254_1X2_304X500H500.STEP": height 5, standoff -2, extent -1.52,-3.77 1.52,1.23

## RHDRV4W45P254_2X2_558X500H500 [mm] "Header, Vertical Receptacle, 2.54 mm pitch; 0.45 mm lead width, 4 pins, 2 rows, 2 pins per row, 5.58 mm L X 5.00 mm W X 5.00 mm H body"
height 5
pads (4):
  rect 1.05x1.05 / inner round 1.05 / far side rect 1.05x1.05 hole 0.65 paste-2539.97: 1(0,0)
  round 1.05 hole 0.65 paste-2539.97: 2(0,-2.54) 3(2.54,0) 4(2.54,-2.54)
Top Overlay:
  lines w0.15: -1.53,-3.77 -1.53,1.23 4.07,1.23 4.07,-3.77 -1.53,-3.77
Top Assembly:
  lines w0.25: -1.53,-3.77 -1.53,-0.04 -0.26,1.23 4.07,1.23 4.07,-3.77 -1.53,-3.77
  text ".Designator" at -1.2,-1.7 h1.5
Top Courtyard:
  circle w0.05: c0,0 r0.25
  lines w0.05: -0.35,0 0.35,0 ; 0,-0.35 0,0.35 ; -1.77,-4.02 -1.77,1.48 4.31,1.48 4.31,-4.02 -1.77,-4.02
3D body "RHDRV4W45P254_2X2_558X500H500.STEP": height 5, standoff -2, extent -1.52,-3.77 4.06,1.23

## RHDRV6W45P254_3X2_812X500H500 [mm] "Header, Vertical Receptacle, 2.54 mm pitch; 0.45 mm lead width, 6 pins, 2 rows, 3 pins per row, 8.12 mm L X 5.00 mm W X 5.00 mm H body"
height 5
pads (6):
  rect 1.05x1.05 / inner round 1.05 / far side rect 1.05x1.05 hole 0.65 paste-2539.97: 1(0,0)
  round 1.05 hole 0.65 paste-2539.97: 2(0,-2.54) 3(2.54,0) 4(2.54,-2.54) 5(5.08,0) 6(5.08,-2.54)
Top Overlay:
  lines w0.15: -1.51,-3.77 -1.51,1.23 6.59,1.23 6.59,-3.77 -1.51,-3.77
Top Assembly:
  lines w0.25: -1.51,-3.77 -1.51,-0.04 -0.24,1.23 6.59,1.23 6.59,-3.77 -1.51,-3.77
  text ".Designator" at -0.1,-1.7 h1.5
Top Courtyard:
  circle w0.05: c0,0 r0.25
  lines w0.05: -0.35,0 0.35,0 ; 0,-0.35 0,0.35 ; -1.77,-4.02 -1.77,1.48 6.85,1.48 6.85,-4.02 -1.77,-4.02
3D body "RHDRV6W45P254_3X2_812X500H500.STEP": height 5, standoff -2, extent -1.52,-3.77 6.6,1.23